# Altium schematic symbol library Moa.SchLib: 185 symbols (part 3 of 3)

## RTL8211E
designator U?
pins: 1 MDI[0]+ (io) "MDI Interface", 2 MDI[0]− (io) "MDI Interface", 3 AVDD10 (power) "Regulator and Reference", 4 MDI[1]+ (io) "MDI Interface", 5 MDI[1]− (io) "MDI Interface", 6 AVDD33 (power) "Power", 7 MDI[2]+ (io) "MDI Interface", 8 MDI[2]− (io) "MDI Interface", 9 AVDD10 (power) "Power", 10 MDI[3]+ (io) "MDI Interface", 11 MDI[3]− (io) "MDI Interface", 12 NC, 13 PHY-AD2/RXCTL (out) "RGMII", 14 SELRGV/RXD0 (out) "RGMII", 15 DVDD33 (power) "Power", 16 TXDLY/RXD1 (out) "RGMII", 17 AN0/RXD2 (out) "RGMII", 18 AN1/RXD3 (out) "RGMII", 19 RXC (out) "RGMII", 20 INTB (out) "Management Interface", 21 DVDD33 (power) "Power", 22 TXC (in) "RGMII", 23 TXD0 (in) "RGMII", 24 TXD1 (in) "RGMII", 25 TXD2 (in) "RGMII", 26 TXD3 (in) "RGMII", 27 TXCTL (in) "RGMII", 28 DVDD10 (power) "Power", 29 PHYRSTB (in) "Reset", 30 MDC (in) "Management Interface", 31 MDIO (io) "Management Interface", 32 LED2/RXDLY (out) "RGMII", 33 PMEB (out) "Management Interface", 34 LED0/PHY-AD0 (out) "Mode Selection", 35 LED1/PHY-AD1 (out) "Mode Selection", 36 DVDD10 (power) "Power", 37 DVDD33 (power) "Power", 38 ENSWREG (in) "Regulator and Reference", 39 RSET (out) "Regulator and Reference", 40 AVDD10 (power) "Power", 41 AVDD33 (power) "Power", 42 CKXTAL1 (in) "Clock", 43 CKXTAL2 (out) "Clock", 44 VDDREG (power) "Regulator and Reference", 45 VDDREG (power) "Regulator and Reference", 46 CLK125 (out) "Clock", 47 GND (power) "Power", 48 REG-OUT (out) "Regulator and Reference", 49 GND (power) "Power"

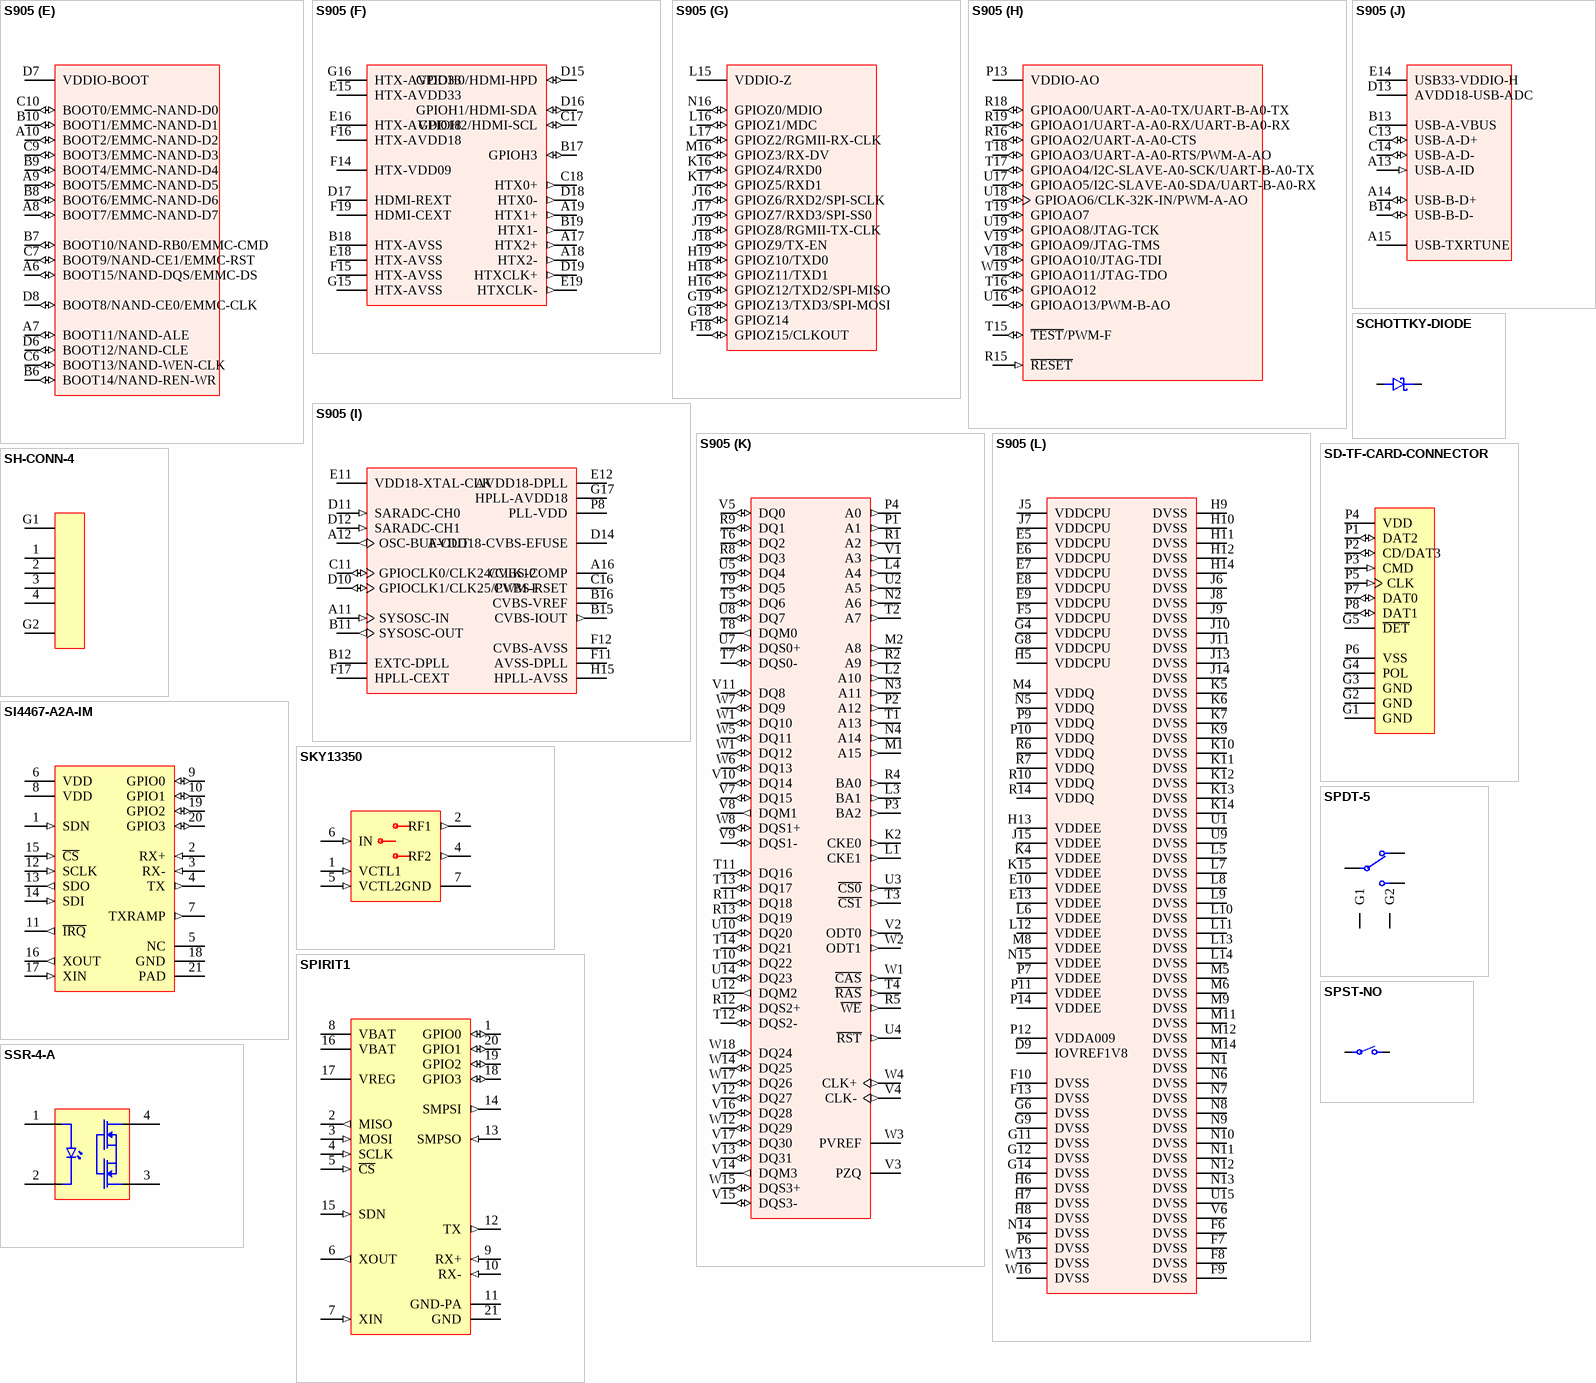
[diagram p8: symbols S905 to SSR-4-A]

## S905
designator U?
part A pins: D1 GPIOX2/SDIO-D2 (io) "General purpose input/output bank X signal 2", E1 GPIOX4/SDIO-CLK (io) "General purpose input/output bank X signal 4", E2 GPIOX3/SDIO-D3 (io) "General purpose input/output bank X signal 3", E4 VDDIO-X (power) "General purpose input/output bank X signal 0", F1 GPIOX6/PWM-A (io) "General purpose input/output bank X signal 6", F2 GPIOX5/SDIO-CMD (io) "General purpose input/output bank X signal 5", F3 GPIOX1/SDIO-D1 (io) "General purpose input/output bank X signal 1", F4 GPIOX0/SDIO-D0 (io) "General purpose input/output bank X signal 0", G1 GPIOX9 (io) "General purpose input/output bank X signal 9", G2 GPIOX8 (io) "General purpose input/output bank X signal 8", G3 GPIOX7/PWM-F/SDIO-IRQ (io) "General purpose input/output bank X signal 7", H1 GPIOX12/UART-A-TX (io) "General purpose input/output bank X signal 12", H2 GPIOX11 (io) "General purpose input/output bank X signal 11", H4 GPIOX10 (io) "General purpose input/output bank X signal 10", J1 GPIOX19/UART-B-RTS/PWM-E (io) "General purpose input/output bank X signal 19", J2 GPIOX15/UART-A-RTS (io) "General purpose input/output bank X signal 15", J3 GPIOX14/UART-A-CTS (io) "General purpose input/output bank X signal 14", J4 GPIOX13/UART-A-RX (io) "General purpose input/output bank X signal 13", K1 GPIOX21 (io) "General purpose input/output bank X signal 21", K3 GPIOX20 (io) "General purpose input/output bank X signal 20"
part B pins: A1 GPIOY12/UART-C-RTS (io) "General purpose input/output bank Y signal 12", A2 GPIOY9 (io) "General purpose input/output bank Y signal 9", A3 GPIOY6 (io) "General purpose input/output bank Y signal 6", A4 GPIOY5 (io) "General purpose input/output bank Y signal 5", A5 GPIOY1 (io) "General purpose input/output bank Y signal 1", B1 GPIOY13/UART-C-TX (io) "General purpose input/output bank Y signal 13", B2 GPIOY10 (io) "General purpose input/output bank Y signal 10", B3 GPIOY7 (io) "General purpose input/output bank Y signal 7", B4 GPIOY4 (io) "General purpose input/output bank Y signal 4", B5 GPIOY0 (io) "General purpose input/output bank Y signal 0", C1 GPIOY14/UART-C-RX (io) "General purpose input/output bank Y signal 14", C2 GPIOY11/UART-C-CTS (io) "General purpose input/output bank Y signal 11", C3 GPIOY8 (io) "General purpose input/output bank Y signal 8", C4 GPIOY3 (io) "General purpose input/output bank Y signal 3", D2 GPIOY15/CLKOUT/PWM-F (io) "General purpose input/output bank Y signal 15", D3 GPIOY16/PWM-A (io) "General purpose input/output bank Y signal 16", D4 GPIOY2 (io) "General purpose input/output bank Y signal 2", D5 VDDIO-Y (power) "Power supply for GPIO bank Y"
part C pins: N17 GPIODV29/I2C-C-SCK/PWM-B (io) "General purpose input/output bank DV signal 29", N18 GPIODV28/I2C-C-SDA/PWM-D (io) "General purpose input/output bank DV signal 28", P15 VDDIO-DV (power) "Power supply for GPIO bank DV", P16 GPIODV24/UART-B-TX/I2C-A-SDA (io) "General purpose input/output bank DV signal 24", P17 GPIODV25/UART-B-RX/I2C-A-SCK (io) "General purpose input/output bank DV signal 25", P18 GPIODV27/UART-B-RTS/I2C-B-SCK (io) "General purpose input/output bank DV signal 27", P19 GPIODV26/UART-B-CTS/I2C-B-SDA (io) "General purpose input/output bank DV signal 26"
part D pins: K18 CARD1/SDCARD-D0/JTAG-TDO (io) "General purpose input/output bank CARD signal 1", K19 CARD0/SDCARD-D1/JTAG-TDI (io) "General purpose input/output bank CARD signal 0", L18 CARD3/SDCARD-CMD/JTAG-TMS (io) "General purpose input/output bank CARD signal 3", L19 CARD2/SDCARD-CLK/JTAG-CLK (io) "General purpose input/output bank CARD signal 2", M15 VDDIO-CARD (power) "Power supply for GPIO bank CARD", M18 CARD5/SDCARD-D2/UART-A-A0-RX (io) "General purpose input/output bank CARD signal 5", M19 CARD4/SDCARD-D3/UART-A-A0-TX (io) "General purpose input/output bank CARD signal 4", N19 CARD6 (io) "General purpose input/output bank CARD signal 6"
part E pins: A6 BOOT15/NAND-DQS/EMMC-DS (io) "General purpose input/output bank BOOT signal 15", A7 BOOT11/NAND-ALE (io) "General purpose input/output bank BOOT signal 11", A8 BOOT7/EMMC-NAND-D7 (io) "General purpose input/output bank BOOT signal 7", A9 BOOT5/EMMC-NAND-D5 (io) "General purpose input/output bank BOOT signal 5", A10 BOOT2/EMMC-NAND-D2 (io) "General purpose input/output bank BOOT signal 2", B6 BOOT14/NAND-REN-WR (io) "General purpose input/output bank BOOT signal 14", B7 BOOT10/NAND-RB0/EMMC-CMD (io) "General purpose input/output bank BOOT signal 10", B8 BOOT6/EMMC-NAND-D6 (io) "General purpose input/output bank BOOT signal 6", B9 BOOT4/EMMC-NAND-D4 (io) "General purpose input/output bank BOOT signal 4", B10 BOOT1/EMMC-NAND-D1 (io) "General purpose input/output bank BOOT signal 1", C6 BOOT13/NAND-WEN-CLK (io) "General purpose input/output bank BOOT signal 13", C7 BOOT9/NAND-CE1/EMMC-RST (io) "General purpose input/output bank BOOT signal 9", C9 BOOT3/EMMC-NAND-D3 (io) "General purpose input/output bank BOOT signal 3", C10 BOOT0/EMMC-NAND-D0 (io) "General purpose input/output bank BOOT signal 0", D6 BOOT12/NAND-CLE (io) "General purpose input/output bank BOOT signal 12", D7 VDDIO-BOOT (power) "Power supply for GPIO bank BOOT", D8 BOOT8/NAND-CE0/EMMC-CLK (io) "General purpose input/output bank BOOT signal 8"
part F pins: A17 HTX2+ (out) "HDMI TMDS data1 positive output", A18 HTX2- (out) "HDMI TMDS data1 negative output", A19 HTX1+ (out) "HDMI TMDS data1 positive output", B17 GPIOH3 (io) "General purpose input/output bank H signal 3", B18 HTX-AVSS (power) "Analog power ground for HDMI", B19 HTX1- (out) "HDMI TMDS data1 negative output", C17 GPIOH2/HDMI-SCL (io) "General purpose input/output bank H signal 2", C18 HTX0+ (out) "HDMI TMDS data0 positive output", D15 GPIOH0/HDMI-HPD (io) "General purpose input/output bank H signal 0", D16 GPIOH1/HDMI-SDA (io) "General purpose input/output bank H signal 1", D17 HDMI-REXT "HDMI output strength setting resistor", D18 HTX0- (out) "HDMI TMDS data0 negative output", D19 HTXCLK+ (out) "HDMI TMDS clock positive output", E15 HTX-AVDD33 (power) "Analog power supply 3.3V for HDMI", E16 HTX-AVDD18 (power) "Analog power supply 1.8V for HDMI", E18 HTX-AVSS (power) "Analog power ground for HDMI", E19 HTXCLK- (out) "HDMI TMDS clock negative output", F14 HTX-VDD09 (power) "Power supply 0.9V for HDMI", F15 HTX-AVSS (power) "Analog power ground for HDMI", F16 HTX-AVDD18 (power) "Analog power supply 1.8V for HDMI", F19 HDMI-CEXT "HDMI TX external filter cap", G15 HTX-AVSS (power) "Analog power ground for HDMI", G16 HTX-AVDD33 (power) "Analog power supply 3.3V for HDMI"
part G pins: F18 GPIOZ15/CLKOUT (io) "General purpose input/output bank Z signal 15", G18 GPIOZ14 (io) "General purpose input/output bank Z signal 14", G19 GPIOZ13/TXD3/SPI-MOSI (io) "General purpose input/output bank Z signal 13", H16 GPIOZ12/TXD2/SPI-MISO (io) "General purpose input/output bank Z signal 12", H18 GPIOZ11/TXD1 (io) "General purpose input/output bank Z signal 11", H19 GPIOZ10/TXD0 (io) "General purpose input/output bank Z signal 10", J16 GPIOZ6/RXD2/SPI-SCLK (io) "General purpose input/output bank Z signal 6", J17 GPIOZ7/RXD3/SPI-SS0 (io) "General purpose input/output bank Z signal 7", J18 GPIOZ9/TX-EN (io) "General purpose input/output bank Z signal 9", J19 GPIOZ8/RGMII-TX-CLK (io) "General purpose input/output bank Z signal 8", K16 GPIOZ4/RXD0 (io) "General purpose input/output bank Z signal 4", K17 GPIOZ5/RXD1 (io) "General purpose input/output bank Z signal 5", L15 VDDIO-Z (power) "Power supply for GPIO bank Z", L16 GPIOZ1/MDC (io) "General purpose input/output bank Z signal 1", L17 GPIOZ2/RGMII-RX-CLK (io) "General purpose input/output bank Z signal 2", M16 GPIOZ3/RX-DV (io) "General purpose input/output bank Z signal 3", N16 GPIOZ0/MDIO (io) "General purpose input/output bank Z signal 0"
part H pins: P13 VDDIO-AO (power) "Power supply for GPIO bank AO", R15 ~{RESET} (in) "System reset input", R16 GPIOAO2/UART-A-A0-CTS (io) "General purpose input/output bank AO signal 2", R18 GPIOAO0/UART-A-A0-TX/UART-B-A0-TX (io) "General purpose input/output bank AO signal 0", R19 GPIOAO1/UART-A-A0-RX/UART-B-A0-RX (io) "General purpose input/output bank AO signal 1", T15 ~{TEST}/PWM-F (io) "General purpose input/output bank AO signal 14. Should be pulled up during normal operation.", T16 GPIOAO12 (io) "General purpose input/output bank AO signal 12", T17 GPIOAO4/I2C-SLAVE-A0-SCK/UART-B-A0-TX (io) "General purpose input/output bank AO signal 4", T18 GPIOAO3/UART-A-A0-RTS/PWM-A-AO (io) "General purpose input/output bank AO signal 3", T19 GPIOAO7 (io) "General purpose input/output bank AO signal 7", U16 GPIOAO13/PWM-B-AO (io) "General purpose input/output bank AO signal 13", U17 GPIOAO5/I2C-SLAVE-A0-SDA/UART-B-A0-RX (io) "General purpose input/output bank AO signal 5", U18 GPIOAO6/CLK-32K-IN/PWM-A-AO (io) "General purpose input/output bank AO signal 6", U19 GPIOAO8/JTAG-TCK (io) "General purpose input/output bank AO signal 8", V18 GPIOAO10/JTAG-TDI (io) "General purpose input/output bank AO signal 10", V19 GPIOAO9/JTAG-TMS (io) "General purpose input/output bank AO signal 9", W19 GPIOAO11/JTAG-TDO (io) "General purpose input/output bank AO signal 11"
part I pins: A11 SYSOSC-IN (in) "24MHz crystal oscillator input", A12 OSC-BUF-OUT (out) "Buffered 24MHz XTAL output", A16 CVBS-COMP "CVBS external compensation capacitor connection", B11 SYSOSC-OUT (out) "24MHz crystal oscillator output", B12 EXTC-DPLL "DPLL external filter cap", B15 CVBS-IOUT (out) "CVBS output", B16 CVBS-VREF "CVBS reference voltage filter cap", C11 GPIOCLK0/CLK24/CLK12 (io) "General purpose input/output bank CLK signal 0", C16 CVBS-RSET "CVBS output strength setting resistor", D10 GPIOCLK1/CLK25/PWM-F (io) "General purpose input/output bank CLK signal 1", D11 SARADC-CH0 (in) "ADC channel 0 input", D12 SARADC-CH1 (in) "ADC channel 1 input", D14 AVDD18-CVBS-EFUSE (power) "Analog power supply for CVBS and eFuse", E11 VDD18-XTAL-CLK (power) "Power supply for GPIO bank CLK and crystal", E12 AVDD18-DPLL (power) "Analog power supply 1.8V for DPLL", F11 AVSS-DPLL (power) "Analog power ground for DPLL", F12 CVBS-AVSS (power) "Analog power ground for CVBS", F17 HPLL-CEXT "HPLL external filter cap", G17 HPLL-AVDD18 (power) "Analog 1.8V power supply for HPLL", H15 HPLL-AVSS (power) "Analog power ground for HPLL", P8 PLL-VDD (power) "Power supply for PLL"
part J pins: A13 USB-A-ID (in) "USB OTG mini-receptacle identifier (Internal 10KΩ pull-up resistor to AVDD18)", A14 USB-B-D+ (io) "USB host positive data signal", A15 USB-TXRTUNE "USB output strength setting resistor", B13 USB-A-VBUS (power) "USB OTG cable power detection (5V tolerance)", B14 USB-B-D- (io) "USB host negative data signal", C13 USB-A-D+ (io) "USB OTG positive data signal", C14 USB-A-D- (io) "USB OTG negative data signal", D13 AVDD18-USB-ADC (power) "Analog power supply for SARADC and USB", E14 USB33-VDDIO-H (power) "Power supply for GPIO bank H and USB"
part K pins: K2 CKE0 (out) "DRAM clock enable output 0", L1 CKE1 (out) "DRAM clock enable output 1", L2 A10 (out) "DRAM address bus bit 10", L3 BA1 (out) "DRAM bank address bus bit 1", L4 A4 (out) "DRAM address bus bit 4", M1 A15 (out) "DRAM address bus bit 15", M2 A8 (out) "DRAM address bus bit 8", N2 A6 (out) "DRAM address bus bit 6", N3 A11 (out) "DRAM address bus bit 11", N4 A14 (out) "DRAM address bus bit 14", P1 A1 (out) "DRAM address bus bit 1", P2 A12 (out) "DRAM address bus bit 12", P3 BA2 (out) "DRAM bank address bus bit 2", P4 A0 (out) "DRAM address bus bit 0", R1 A2 (out) "DRAM address bus bit 2", R2 A9 (out) "DRAM address bus bit 9", R4 BA0 (out) "DRAM bank address bus bit 0", R5 ~{WE} (out) "DRAM write enable", R8 DQ3 (io) "DRAM data bus bit 3", R9 DQ1 (io) "DRAM data bus bit 1", R11 DQ18 (io) "DRAM data bus bit 18", R12 DQS2+ (io) "DRAM data strobe 2", R13 DQ19 (io) "DRAM data bus bit 19", T1 A13 (out) "DRAM address bus bit 13", T2 A7 (out) "DRAM address bus bit 7", T3 ~{CS1} (out) "DRAM chip select output 1", T4 ~{RAS} (out) "DRAM row address strobe", T5 DQ6 (io) "DRAM data bus bit 6", T6 DQ2 (io) "DRAM data bus bit 2", T7 DQS0- (io) "DRAM data strobe 0 complementary", T8 DQM0 (out) "DRAM data mask 0", T9 DQ5 (io) "DRAM data bus bit 5", T10 DQ22 (io) "DRAM data bus bit 22", T11 DQ16 (io) "DRAM data bus bit 16", T12 DQS2- (io) "DRAM data strobe 2 complementary", T13 DQ17 (io) "DRAM data bus bit 17", T14 DQ21 (io) "DRAM data bus bit 21", U2 A5 (out) "DRAM address bus bit 5", U3 ~{CS0} (out) "DRAM chip select output 0", U4 ~{RST} (out) "DRAM reset", U5 DQ4 (io) "DRAM data bus bit 4", U7 DQS0+ (io) "DRAM data strobe 0", U8 DQ7 (io) "DRAM data bus bit 7", U10 DQ20 (io) "DRAM data bus bit 20", U12 DQM2 (out) "DRAM data mask 2", U14 DQ23 (io) "DRAM data bus bit 23", V1 A3 (out) "DRAM address bus bit 3", V2 ODT0 (out) "DRAM on-die termination 0", V3 PZQ "DRAM reference pin for ZQ calibration", V4 CLK- (out) "DRAM clock negative output", V5 DQ0 (io) "DRAM data bus bit 0", V7 DQ15 (io) "DRAM data bus bit 15", V8 DQM1 (out) "DRAM data mask 1", V9 DQS1- (io) "DRAM data strobe 1 complementary", V10 DQ14 (io) "DRAM data bus bit 14", V11 DQ8 (io) "DRAM data bus bit 8", V12 DQ27 (io) "DRAM data bus bit 27", V13 DQ31 (io) "DRAM data bus bit 31", V14 DQM3 (out) "DRAM data mask 3", V15 DQS3- (io) "DRAM data strobe 3 complementary", V16 DQ28 (io) "DRAM data bus bit 28", V17 DQ30 (io) "DRAM data bus bit 30", W1 ~{CAS} (out) "DRAM column address strobe", W1 DQ10 (io) "DRAM data bus bit 10", W1 DQ12 (io) "DRAM data bus bit 12", W2 ODT1 (out) "DRAM on-die termination 1", W3 PVREF "DRAM reference voltage", W4 CLK+ (out) "DRAM clock positive output", W5 DQ11 (io) "DRAM data bus bit 11", W6 DQ13 (io) "DRAM data bus bit 13", W7 DQ9 (io) "DRAM data bus bit 9", W8 DQS1+ (io) "DRAM data strobe 1", W12 DQ29 (io) "DRAM data bus bit 29", W14 DQ25 (io) "DRAM data bus bit 25", W15 DQS3+ (io) "DRAM data strobe 3", W17 DQ26 (io) "DRAM data bus bit 26", W18 DQ24 (io) "DRAM data bus bit 24"
part L pins: D9 IOVREF1V8 (power) "1.8V Power supply for IOVREF", E5 VDDCPU (power) "Power supply for CPU (Cortex A5)", E6 VDDCPU (power) "Power supply for CPU (Cortex A5)", E7 VDDCPU (power) "Power supply for CPU (Cortex A5)", E8 VDDCPU (power) "Power supply for CPU (Cortex A5)", E9 VDDCPU (power) "Power supply for CPU (Cortex A5)", E10 VDDEE (power) "Power Supply for GPU and core logic", E13 VDDEE (power) "Power Supply for GPU and core logic", F5 VDDCPU (power) "Power supply for CPU (Cortex A5)", F6 DVSS (power) "Digital power ground", F7 DVSS (power) "Digital power ground", F8 DVSS (power) "Digital power ground", F9 DVSS (power) "Digital power ground", F10 DVSS (power) "Digital power ground", F13 DVSS (power) "Digital power ground", G4 VDDCPU (power) "Power supply for CPU (Cortex A5)", G6 DVSS (power) "Digital power ground", G8 VDDCPU (power) "Power supply for CPU (Cortex A5)", G9 DVSS (power) "Digital power ground", G11 DVSS (power) "Digital power ground", G12 DVSS (power) "Digital power ground", G14 DVSS (power) "Digital power ground", H5 VDDCPU (power) "Power supply for CPU (Cortex A5)", H6 DVSS (power) "Digital power ground", H7 DVSS (power) "Digital power ground", H8 DVSS (power) "Digital power ground", H9 DVSS (power) "Digital power ground", H10 DVSS (power) "Digital power ground", H11 DVSS (power) "Digital power ground", H12 DVSS (power) "Digital power ground", H13 VDDEE (power) "Power Supply for GPU and core logic", H14 DVSS (power) "Digital power ground", J5 VDDCPU (power) "Power supply for CPU (Cortex A5)", J6 DVSS (power) "Digital power ground", J7 VDDCPU (power) "Power supply for CPU (Cortex A5)", J8 DVSS (power) "Digital power ground", J9 DVSS (power) "Digital power ground", J10 DVSS (power) "Digital power ground", J11 DVSS (power) "Digital power ground", J13 DVSS (power) "Digital power ground", J14 DVSS (power) "Digital power ground", J15 VDDEE (power) "Power Supply for GPU and core logic", K4 VDDEE (power) "Power Supply for GPU and core logic", K5 DVSS (power) "Digital power ground", K6 DVSS (power) "Digital power ground", K7 DVSS (power) "Digital power ground", K9 DVSS (power) "Digital power ground", K10 DVSS (power) "Digital power ground", K11 DVSS (power) "Digital power ground", K12 DVSS (power) "Digital power ground", K13 DVSS (power) "Digital power ground", K14 DVSS (power) "Digital power ground", K15 VDDEE (power) "Power Supply for GPU and core logic", L5 DVSS (power) "Digital power ground", L6 VDDEE (power) "Power Supply for GPU and core logic", L7 DVSS (power) "Digital power ground", L8 DVSS (power) "Digital power ground", L9 DVSS (power) "Digital power ground", L10 DVSS (power) "Digital power ground", L11 DVSS (power) "Digital power ground", L12 VDDEE (power) "Power Supply for GPU and core logic", L13 DVSS (power) "Digital power ground", L14 DVSS (power) "Digital power ground", M4 VDDQ (power) "Power supply for DDR", M5 DVSS (power) "Digital power ground", M6 DVSS (power) "Digital power ground", M8 VDDEE (power) "Power Supply for GPU and core logic", M9 DVSS (power) "Digital power ground", M11 DVSS (power) "Digital power ground", M12 DVSS (power) "Digital power ground", M14 DVSS (power) "Digital power ground", N1 DVSS (power) "Digital power ground", N5 VDDQ (power) "Power supply for DDR", N6 DVSS (power) "Digital power ground", N7 DVSS (power) "Digital power ground", N8 DVSS (power) "Digital power ground", N9 DVSS (power) "Digital power ground", N10 DVSS (power) "Digital power ground", N11 DVSS (power) "Digital power ground", N12 DVSS (power) "Digital power ground", N13 DVSS (power) "Digital power ground", N14 DVSS (power) "Digital power ground", N15 VDDEE (power) "Power Supply for GPU and core logic", P6 DVSS (power) "Digital power ground", P7 VDDEE (power) "Power Supply for GPU and core logic", P9 VDDQ (power) "Power supply for DDR", P10 VDDQ (power) "Power supply for DDR", P11 VDDEE (power) "Power Supply for GPU and core logic", P12 VDDA009 (power) "Power supply 0.9V for AO domain", P14 VDDEE (power) "Power Supply for GPU and core logic", R6 VDDQ (power) "Power supply for DDR", R7 VDDQ (power) "Power supply for DDR", R10 VDDQ (power) "Power supply for DDR", R14 VDDQ (power) "Power supply for DDR", U1 DVSS (power) "Digital power ground", U9 DVSS (power) "Digital power ground", U15 DVSS (power) "Digital power ground", V6 DVSS (power) "Digital power ground", W13 DVSS (power) "Digital power ground", W16 DVSS (power) "Digital power ground"

## SCHOTTKY-DIODE
designator D?
pins: 1, 2

## SD-TF-CARD-CONNECTOR
designator J?
pins: G1 GND (power), G2 GND (power), G3 GND (power), G4 POL (power), G5 ~{DET}, P1 DAT2 (io), P2 CD/DAT3 (io), P3 CMD (in), P4 VDD (power), P5 CLK (in), P6 VSS (power), P7 DAT0 (io), P8 DAT1 (io)

## SH-CONN-4
designator J?
pins: 1, 2, 3, 4, G1, G2

## SI4467-A2A-IM
designator U?
pins: 1 SDN (in) "Shutdown Input Pin", 2 RX+ (in) "Differential RF Input Pins of the LNA", 3 RX- (in) "Differential RF Input Pins of the LNA", 4 TX (out) "Transmit Output Pin.", 5 NC "It is recommended to connect to GND per the reference design", 6 VDD (power) "+1.8 to +3.8 V Supply Voltage Input to Internal Regulators", 7 TXRAMP (out) "Programmable Bias Output with Ramp Capability for Exte", 8 VDD (power) "+1.8 to +3.8 V Supply Voltage Input to Internal Regulators", 9 GPIO0 (io) "General Purpose Digital I/O.", 10 GPIO1 (io) "General Purpose Digital I/O.", 11 ~{IRQ} (out) "General Microcontroller Interrupt Status Output.", 12 SCLK (in) "Serial Clock Input", 13 SDO (out) "0–VDD V Digital Output", 14 SDI (in) "Serial Data Input", 15 ~{CS} (in) "Serial Interface Select Input", 16 XOUT (out) "Crystal Oscillator Output.", 17 XIN (in) "Crystal Oscillator Input.", 18 GND (power) "Power Supply", 19 GPIO2 (io) "General Purpose Digital I/O.", 20 GPIO3 (io) "General Purpose Digital I/O.", 21 PAD (power) "Ground Pad"

## SKY13350
designator U?
pins: 1 VCTL1 (in), 2 RF1 (out), 4 RF2 (out), 5 VCTL2 (in), 6 IN (in), 7 GND (power)

## SPDT-5
designator SW?
pins: 1, 2, 3, G1, G2

## SPIRIT1
designator U?
pins: 1 GPIO0 (io) "General purpose I/O that may be configured through the SPI registers to perform various functions.", 2 MISO (out) "SPI data output pin", 3 MOSI (in) "SPI data input pin", 4 SCLK (in) "SPI clock input pin", 5 ~{CS} (in) "SPI chip select", 6 XOUT (out) "Crystal oscillator output. Connect to an external 26 MHz crystal or leave floating if driving the XIN pin with an external signal source", 7 XIN (in) "Crystal oscillator input. Connect to an external 26 MHz crystal or to an external source. If using an external clock source with no crystal, DC coupling with a nominal 0.2 VDC level is recommended with minimum AC amplitude of 400 mVpp.", 8 VBAT (power) "+1.8 V to +3.6 V input supply voltage", 9 RX+ (in) "Differential RF input signal for the LNA. See application diagram for a typical matching network", 10 RX- (in) "Differential RF input signal for the LNA. See application diagram for a typical matching network", 11 GND-PA (power) "Ground for PA.", 12 TX (out) "RF output signal", 13 SMPSO (in) "Regulated DC-DC voltage input", 14 SMPSI (out) "DC-DC output pin", 15 SDN (in) "Shutdown input pin. 0-VDD V digital input. SDN should be = ‘0’ in all modes except shutdown mode. When SDN =’1’ the SPIRIT1 is completely shut down and the contents of the registers are lost. The GPIO and SPI ports during SHUTDOWN are in HiZ.", 16 VBAT (power) "+1.8 V to +3.6 V input supply voltage", 17 VREG (power) "Regulated output voltage. A 100 nF decoupling capacitor is required", 18 GPIO3 (io) "General purpose I/O that may be configured through the SPI registers to perform various functions.", 19 GPIO2 (io) "General purpose I/O that may be configured through the SPI registers to perform various functions.", 20 GPIO1 (io) "General purpose I/O that may be configured through the SPI registers to perform various functions.", 21 GND (power) "Exposed pad ground pin"

## SPST-NO
designator SW?
pins: 1, 2

## SSR-4-A
designator U?
pins: 1, 2, 3, 4

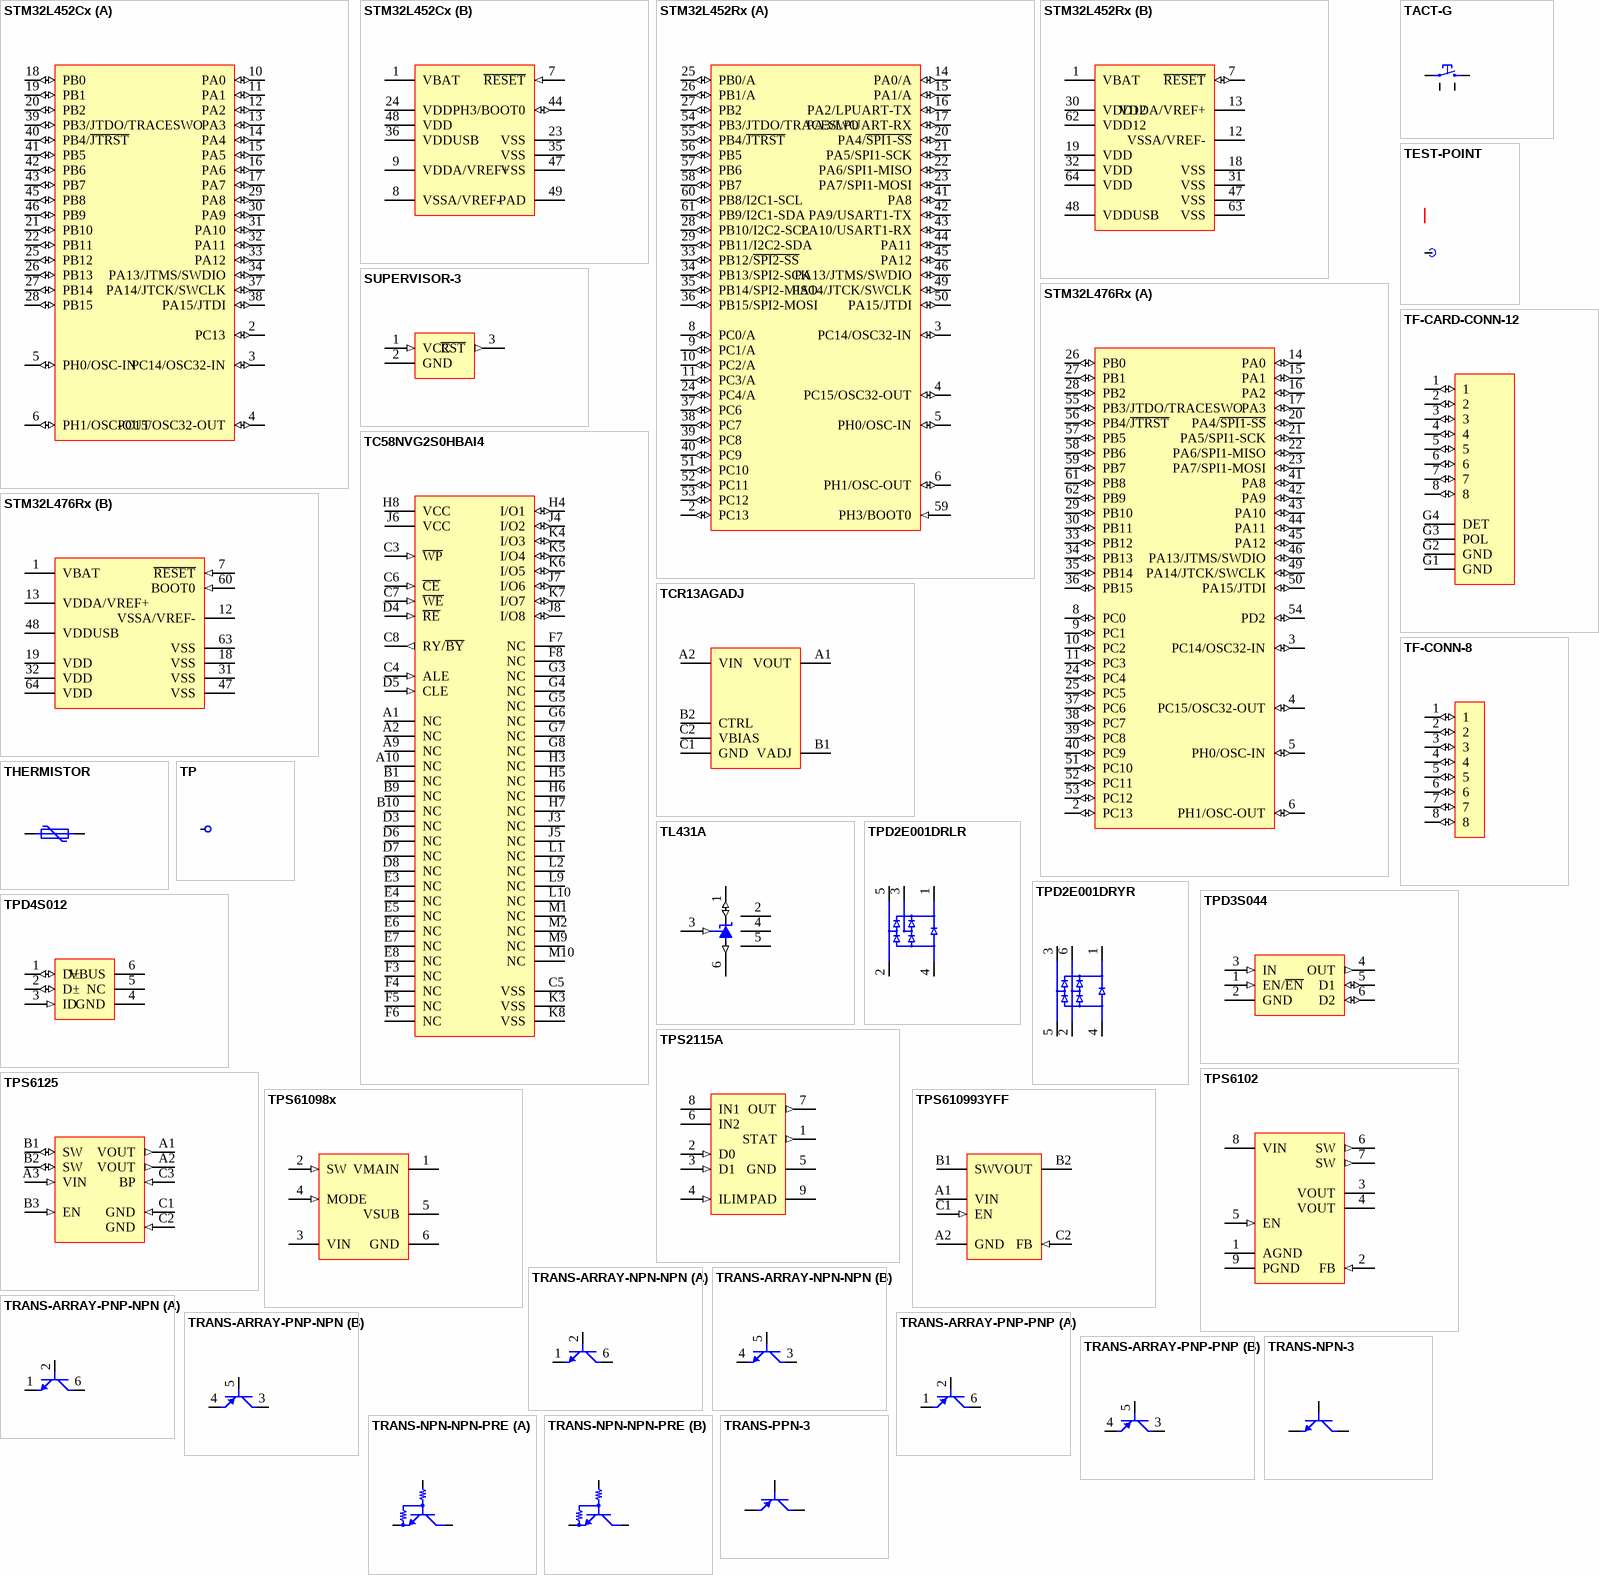
[diagram p9: symbols STM32L452Cx to TRANS-PPN-3]

## STM32L452Cx
designator U?
part A pins: 2 PC13 (io), 3 PC14/OSC32-IN (io), 4 PC15/OSC32-OUT (io), 5 PH0/OSC-IN (io), 6 PH1/OSC-OUT (io), 10 PA0 (io), 11 PA1 (io), 12 PA2 (io), 13 PA3 (io), 14 PA4 (io), 15 PA5 (io), 16 PA6 (io), 17 PA7 (io), 18 PB0 (io), 19 PB1 (io), 20 PB2 (io), 21 PB10 (io), 22 PB11 (io), 25 PB12 (io), 26 PB13 (io), 27 PB14 (io), 28 PB15 (io), 29 PA8 (io), 30 PA9 (io), 31 PA10 (io), 32 PA11 (io), 33 PA12 (io), 34 PA13/JTMS/SWDIO (io), 37 PA14/JTCK/SWCLK (io), 38 PA15/JTDI (io), 39 PB3/JTDO/TRACESWO (io), 40 PB4/~{JTRST} (io), 41 PB5 (io), 42 PB6 (io), 43 PB7 (io), 45 PB8 (io), 46 PB9 (io)
part B pins: 1 VBAT (power), 7 ~{RESET} (in), 8 VSSA/VREF- (power), 9 VDDA/VREF+ (power), 23 VSS (power), 24 VDD (power), 35 VSS (power), 36 VDDUSB (power), 44 PH3/BOOT0 (io), 47 VSS (power), 48 VDD (power), 49 PAD (power)

## STM32L452Rx
designator U?
part A pins: 2 PC13 (io), 3 PC14/OSC32-IN (io), 4 PC15/OSC32-OUT (io), 5 PH0/OSC-IN (io), 6 PH1/OSC-OUT (io), 8 PC0/A (io), 9 PC1/A (io), 10 PC2/A (io), 11 PC3/A (io), 14 PA0/A (io), 15 PA1/A (io), 16 PA2/LPUART-TX (io), 17 PA3/LPUART-RX (io), 20 PA4/~{SPI1-SS} (io), 21 PA5/SPI1-SCK (io), 22 PA6/SPI1-MISO (io), 23 PA7/SPI1-MOSI (io), 24 PC4/A (io), 25 PB0/A (io), 26 PB1/A (io), 27 PB2 (io), 28 PB10/I2C2-SCL (io), 29 PB11/I2C2-SDA (io), 33 PB12/~{SPI2-SS} (io), 34 PB13/SPI2-SCK (io), 35 PB14/SPI2-MISO (io), 36 PB15/SPI2-MOSI (io), 37 PC6 (io), 38 PC7 (io), 39 PC8 (io), 40 PC9 (io), 41 PA8 (io), 42 PA9/USART1-TX (io), 43 PA10/USART1-RX (io), 44 PA11 (io), 45 PA12 (io), 46 PA13/JTMS/SWDIO (io), 49 PA14/JTCK/SWCLK (io), 50 PA15/JTDI (io), 51 PC10 (io), 52 PC11 (io), 53 PC12 (io), 54 PB3/JTDO/TRACESWO (io), 55 PB4/~{JTRST} (io), 56 PB5 (io), 57 PB6 (io), 58 PB7 (io), 59 PH3/BOOT0 (in), 60 PB8/I2C1-SCL (io), 61 PB9/I2C1-SDA (io)
part B pins: 1 VBAT (power), 7 ~{RESET} (io), 12 VSSA/VREF- (power), 13 VDDA/VREF+ (power), 18 VSS (power), 19 VDD (power), 30 VDD12 (power), 31 VSS (power), 32 VDD (power), 47 VSS (power), 48 VDDUSB (power), 62 VDD12 (power), 63 VSS (power), 64 VDD (power)

## STM32L476Rx
designator U?
part A pins: 2 PC13 (io), 3 PC14/OSC32-IN (io), 4 PC15/OSC32-OUT (io), 5 PH0/OSC-IN (io), 6 PH1/OSC-OUT (io), 8 PC0 (io), 9 PC1 (io), 10 PC2 (io), 11 PC3 (io), 14 PA0 (io), 15 PA1 (io), 16 PA2 (io), 17 PA3 (io), 20 PA4/~{SPI1-SS} (io), 21 PA5/SPI1-SCK (io), 22 PA6/SPI1-MISO (io), 23 PA7/SPI1-MOSI (io), 24 PC4 (io), 25 PC5 (io), 26 PB0 (io), 27 PB1 (io), 28 PB2 (io), 29 PB10 (io), 30 PB11 (io), 33 PB12 (io), 34 PB13 (io), 35 PB14 (io), 36 PB15 (io), 37 PC6 (io), 38 PC7 (io), 39 PC8 (io), 40 PC9 (io), 41 PA8 (io), 42 PA9 (io), 43 PA10 (io), 44 PA11 (io), 45 PA12 (io), 46 PA13/JTMS/SWDIO (io), 49 PA14/JTCK/SWCLK (io), 50 PA15/JTDI (io), 51 PC10 (io), 52 PC11 (io), 53 PC12 (io), 54 PD2 (io), 55 PB3/JTDO/TRACESWO (io), 56 PB4/~{JTRST} (io), 57 PB5 (io), 58 PB6 (io), 59 PB7 (io), 61 PB8 (io), 62 PB9 (io)
part B pins: 1 VBAT (power), 7 ~{RESET} (in), 12 VSSA/VREF- (power), 13 VDDA/VREF+ (power), 18 VSS (power), 19 VDD (power), 31 VSS (power), 32 VDD (power), 47 VSS (power), 48 VDDUSB (power), 60 BOOT0 (in), 63 VSS (power), 64 VDD (power)

## SUPERVISOR-3
designator U?
pins: 1 VCC (in), 2 GND (power), 3 ~{RST} (out)

## TACT-G
designator S?
pins: 1, 2, G1, G2

## TC58NVG2S0HBAI4
designator DU?
pins: A1 NC "Not connected", A2 NC "Not connected", A9 NC "Not connected", A10 NC "Not connected", B1 NC "Not connected", B9 NC "Not connected", B10 NC "Not connected", C3 ~{WP} (in) "Write protect", C4 ALE (in) "Address latch enable", C5 VSS (power) "Ground", C6 ~{CE} (in) "Chip enable", C7 ~{WE} (in) "Write enable", C8 RY/~{BY} (out) "Ready/Busy", D3 NC "Not connected", D4 ~{RE} (in) "Read enable", D5 CLE (in) "Command latch enable", D6 NC "Not connected", D7 NC "Not connected", D8 NC "Not connected", E3 NC "Not connected", E4 NC "Not connected", E5 NC "Not connected", E6 NC "Not connected", E7 NC "Not connected", E8 NC "Not connected", F3 NC "Not connected", F4 NC "Not connected", F5 NC "Not connected", F6 NC "Not connected", F7 NC "Not connected", F8 NC "Not connected", G3 NC "Not connected", G4 NC "Not connected", G5 NC "Not connected", G6 NC "Not connected", G7 NC "Not connected", G8 NC "Not connected", H3 NC "Not connected", H4 I/O1 (io) "I/O port", H5 NC "Not connected", H6 NC "Not connected", H7 NC "Not connected", H8 VCC (power) "Power supply", J3 NC "Not connected", J4 I/O2 (io) "I/O port", J5 NC "Not connected", J6 VCC (power) "Power supply", J7 I/O6 (io) "I/O port", J8 I/O8 (io) "I/O port", K3 VSS (power) "Ground", K4 I/O3 (io) "I/O port", K5 I/O4 (io) "I/O port", K6 I/O5 (io) "I/O port", K7 I/O7 (io) "I/O port", K8 VSS (power) "Ground", L1 NC "Not connected", L2 NC "Not connected", L9 NC "Not connected", L10 NC "Not connected", M1 NC "Not connected", M2 NC "Not connected", M9 NC "Not connected", M10 NC "Not connected"

## TCR13AGADJ
designator U?
pins: A1 VOUT (power), A2 VIN (power), B1 VADJ (power), B2 CTRL (power), C1 GND (power), C2 VBIAS (power)

## TEST-POINT
designator TP?
pins: 1

## TF-CARD-CONN-12
designator J?
pins: 1 (io), 2 (io), 3 (io), 4 (io), 5 (io), 6 (io), 7 (io), 8 (io), G1 GND (power), G2 GND (power), G3 POL (power), G4 DET (power)

## TF-CONN-8
designator J?
pins: 1 (io), 2 (io), 3 (io), 4 (io), 5 (io), 6 (io), 7 (io), 8 (io)

## THERMISTOR
designator TH?
pins: 1 (power), 2 (power)

## TL431A
designator U?
pins: 1 CATHODE (io), 2 NC, 3 REF (in), 4 NC, 5 NC, 6 ANODE (out)

## TP
designator TP?
pins: 1

## TPD2E001DRLR
designator U?
pins: 1 VCC (power), 2 IO, 3 IO, 4 GND (power), 5 IO

## TPD2E001DRYR
designator U?
pins: 1 VCC (power), 2 IO, 3 IO, 4 GND (power), 5 IO, 6 IO

## TPD3S044
designator U?
pins: 1 EN/~{EN} (in), 2 GND (power), 3 IN (in), 4 OUT (out), 5 D1 (io), 6 D2 (io)

## TPD4S012
designator U?
pins: 1 D± (io), 2 D± (io), 3 ID (in), 4 GND (power), 5 NC, 6 VBUS (power)

## TPS2115A
designator U?
pins: 1 STAT (out), 2 D0 (in), 3 D1 (in), 4 ILIM (in), 5 GND (power), 6 IN2 (power), 7 OUT (out), 8 IN1 (power), 9 PAD (power)

## TPS6102
designator U?
pins: 1 AGND (power), 2 FB (in), 3 VOUT (power), 4 VOUT (power), 5 EN (in), 6 SW (out), 7 SW (out), 8 VIN (power), 9 PGND (power)

## TPS6125
designator U?
pins: A1 VOUT (out), A2 VOUT (out), A3 VIN (in), B1 SW (io), B2 SW (io), B3 EN (in), C1 GND (in), C2 GND (in), C3 BP (in)

## TPS61098x
designator U?
pins: 1 VMAIN (power), 2 SW (in), 3 VIN (power), 4 MODE (in), 5 VSUB (power), 6 GND (power)

## TPS610993YFF
designator U?
pins: A1 VIN (power), A2 GND (power), B1 SW (power), B2 VOUT (power), C1 EN (in), C2 FB (in)

## TRANS-ARRAY-NPN-NPN
designator Q?
part A pins: 1, 2, 6
part B pins: 3, 4, 5

## TRANS-ARRAY-PNP-NPN
designator Q?
part A pins: 1, 2, 6
part B pins: 3, 4, 5

## TRANS-ARRAY-PNP-PNP
designator Q?
part A pins: 1, 2, 6
part B pins: 3, 4, 5

## TRANS-NPN-3
designator Q?
pins: 1, 2, 3

## TRANS-NPN-NPN-PRE
designator Q?
part A pins: 1, 2, 6
part B pins: 3, 4, 5

## TRANS-PPN-3
designator U?
pins: 1, 2, 3

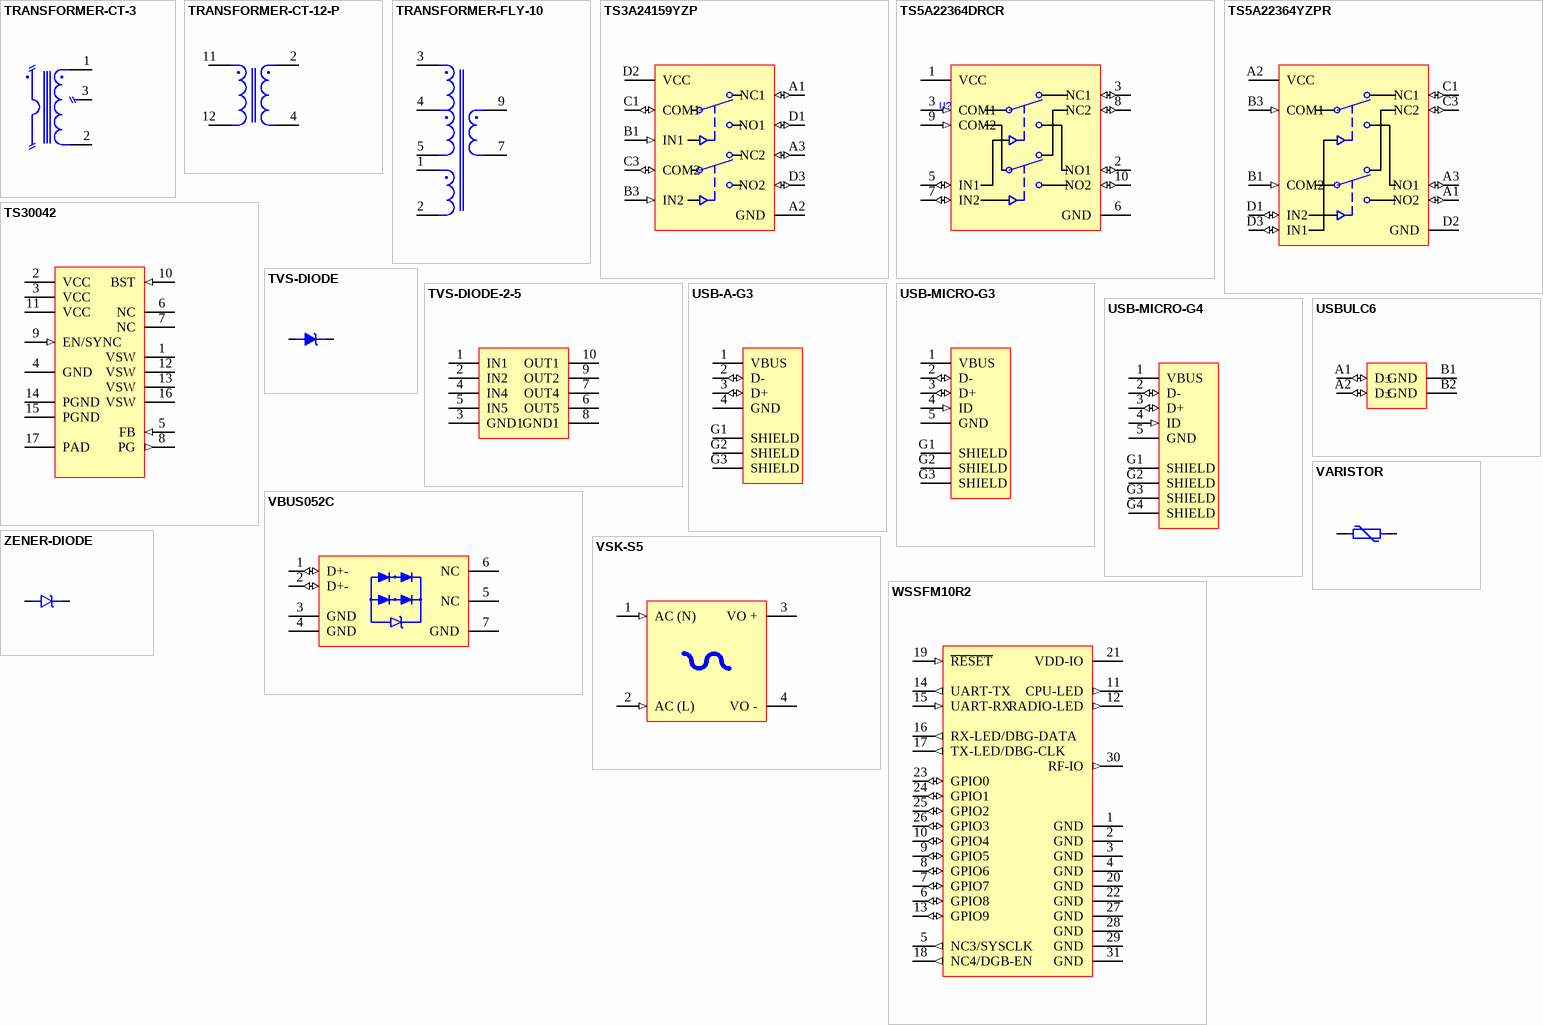
[diagram p10: symbols TRANSFORMER-CT-3 to ZENER-DIODE]

## TRANSFORMER-CT-3
designator T?
pins: 1, 2, 3

## TRANSFORMER-CT-12-P
designator T?
pins: 2, 4, 11, 12

## TRANSFORMER-FLY-10
designator T?
pins: 1, 2, 3, 4, 5, 7, 9

## TS3A24159YZP
designator U?
pins: A1 NC1 (io), A2 GND (power), A3 NC2 (io), B1 IN1 (in), B3 IN2 (in), C1 COM1 (io), C3 COM2 (io), D1 NO1 (io), D2 VCC (power), D3 NO2 (io)

## TS5A22364DRCR
designator U?
pins: 1 VCC (power), 2 NO1 (io), 3 COM1 (in), 3 NC1 (io), 5 IN1 (io), 6 GND (power), 7 IN2 (io), 8 NC2 (io), 9 COM2 (in), 10 NO2 (io)

## TS5A22364YZPR
designator U?
pins: A1 NO2 (io), A2 VCC (power), A3 NO1 (io), B1 COM2 (in), B3 COM1 (in), C1 NC1 (io), C3 NC2 (io), D1 IN2 (io), D2 GND (power), D3 IN1 (io)

## TS30042
designator U?
pins: 1 VSW (power), 2 VCC (power), 3 VCC (power), 4 GND (power), 5 FB (in), 6 NC, 7 NC, 8 PG (out), 9 EN/SYNC (in), 10 BST (in), 11 VCC (power), 12 VSW (power), 13 VSW (power), 14 PGND (power), 15 PGND (power), 16 VSW (power), 17 PAD (power)

## TVS-DIODE
designator D?
pins: 1, 2

## TVS-DIODE-2-5
designator D?
pins: 1 IN1, 2 IN2, 3 GND1, 4 IN4, 5 IN5, 6 OUT5, 7 OUT4, 8 GND1, 9 OUT2, 10 OUT1

## USB-A-G3
designator J?
pins: 1 VBUS (power), 2 D- (io), 3 D+ (io), 4 GND (power), G1 SHIELD (power), G2 SHIELD (power), G3 SHIELD (power)

## USB-MICRO-G3
designator J?
pins: 1 VBUS (power), 2 D- (io), 3 D+ (io), 4 ID (in), 5 GND (power), G1 SHIELD (power), G2 SHIELD (power), G3 SHIELD (power)

## USB-MICRO-G4
designator J?
pins: 1 VBUS (power), 2 D- (io), 3 D+ (io), 4 ID (in), 5 GND (power), G1 SHIELD (power), G2 SHIELD (power), G3 SHIELD (power), G4 SHIELD (power)

## USBULC6
designator U?
pins: A1 D± (io), A2 D± (io), B1 GND (power), B2 GND (power)

## VARISTOR
designator V?
pins: 1 (power), 2 (power)

## VBUS052C
designator U?
pins: 1 D+- (io), 2 D+- (io), 3 GND (power), 4 GND (power), 5 NC, 6 NC, 7 GND (power)

## VSK-S5
designator U?
pins: 1 AC (N) (in), 2 AC (L) (in), 3 VO + (power), 4 VO - (power)

## WSSFM10R2
designator U?
pins: 1 GND (power), 2 GND (power), 3 GND (power), 4 GND (power), 5 NC3/SYSCLK (out), 6 GPIO8 (io), 7 GPIO7 (io), 8 GPIO6 (io), 9 GPIO5 (io), 10 GPIO4 (io), 11 CPU-LED (out), 12 RADIO-LED (out), 13 GPIO9 (io), 14 UART-TX (out), 15 UART-RX (in), 16 RX-LED/DBG-DATA (out), 17 TX-LED/DBG-CLK (out), 18 NC4/DGB-EN (out), 19 ~{RESET} (in), 20 GND (power), 21 VDD-IO (power), 22 GND (power), 23 GPIO0 (io), 24 GPIO1 (io), 25 GPIO2 (io), 26 GPIO3 (io), 27 GND (power), 28 GND (power), 29 GND (power), 30 RF-IO (out), 31 GND (power)

## ZENER-DIODE
designator D?
pins: 1, 2